# Altium footprint library 10S_BYS_PcbLib1.PcbLib: 33 footprints (part 3 of 3)
Each footprint in its own frame and in the unit in brackets; x right, y up, seen from the top. Pads: shape width x height; smd on the part's side, far side on the other; paste and mask are expansions set on the pad; w line width, h text height; cw(c..) or ccw(c..) is an arc to the next point about the centre after c.
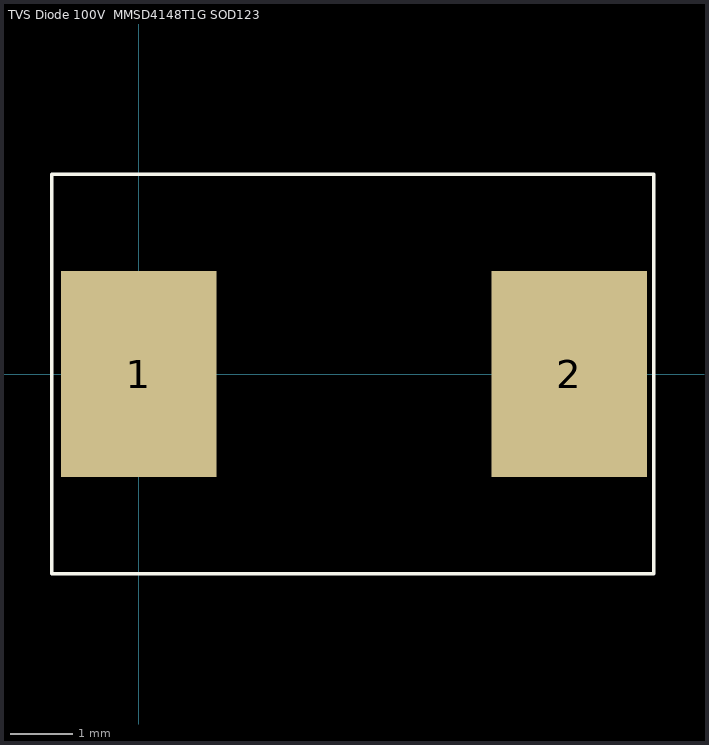
[diagram p2: the footprint, top view; thin cyan lines are the x and y axes]

## TVS Diode 100V  MMSD4148T1G SOD123 [mm]
pads (2):
  rect 2.5x3.3 smd: 1(0,0) 2(6.9,0)
Top Overlay:
  lines w0.05: -1.395,-3.203 8.255,-3.203 8.255,3.203 -1.395,3.203 -1.395,-3.203
3D body "step_temp.STEP": height 2.62, standoff 0, extent -0.54,-2.953 7.4,2.953